# Altium schematic symbol library SCH_Oscillator.SchLib: 2 symbols
Pins are listed as number, name and electrical type; pins without a type are passive.

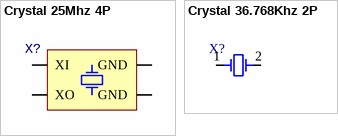
[diagram p0: symbols Crystal 25Mhz 4P to Crystal 36.768Khz 2P]

## Crystal 25Mhz 4P
designator X?  (value not drawn)
CRYSTAL 25.0000MHZ 18PF SMD; Manufacturer: EPSON; Manufacturer Part Number: FA-238 25.0000MB-C3; 梱包形態: カット テープ（CT）; 部品状況: 有効; タイプ: MHz水晶; 周波数安定性: ±30ppm; 周波数公差: ±50ppm; 動作モード: 基本波; 動作温度: -20°C～70°C; 実装タイプ: 面実装; パッケージ/ケース: 4-SMD、リードなし; サイズ/寸法: 0.126インチ長さ x 0.098インチ幅（3.20mm x 2.50mm）; 高さ - 座高（最大）: 0.028インチ（0.70mm）; Supplier 1: Digi-Key; RoHS: RoHS Compliant; Category: 水晶振動子および発振器; Stock 1: 58147; Pricing 1: 1=52, 10=43.1, 50=38.74, 100=34.42 (JPY); 負荷容量: 18pF; 定格: -; ComponentLink1URL: https://support.epson.biz/td/api/doc_check.php?dl=brief_FA-238V_en.pdf; ComponentLink1Description: https://support.epson.biz/td/api/doc_check.php?dl=brief_FA-238V_en.pdf; Supplier Part Number 1: SER3691CT-ND
footprint XTAL 4P
pins: 1 XI, 2 GND, 3 XO, 4 GND

## Crystal 36.768Khz 2P
designator X?
Crystal 36.768Khz 12.5 pF; Manufacturer: Abracon; Manufacturer Part Number: ABS07-32.768KHZ-T; Frequency Tolerance: 20ppm; Load Capacitance: 12.5pF; ESR (Equivalent Series Resistance): 70kR; Frequency: 32.768kHz; Supplier 1: Digi-Key; Stock 1: 344012; Pricing 1: 1=1.09, 10=0.961, 50=0.8988, 100=0.7942, 500=0.7524, 1000=0.627 (USD); Case/Package: CSMD; Number of Pins: 2; Min Operating Temperature: -40°C; Max Operating Temperature: 85°C; Packaging: Tape and Reel; Package Quantity: 3000; Tolerance: 20ppm; Termination: SMD/SMT; Series Resistance: 70kR; Length: 3.2mm; Height: 0.035inch; Width: 0.061inch; Depth: 1.5mm; Radiation Hardening: No; REACH SVHC: No SVHC; Lead Free: Lead Free; ComponentLink1URL: https://abracon.com/Support/PackageDrawing/Resonators/ABS07.PDF; ComponentLink1Description: https://abracon.com/Support/PackageDrawing/Resonators/ABS07.PDF; ComponentLink2URL: http://www.farnell.com/datasheets/1883680.pdf; ComponentLink2Description: http://www.farnell.com/datasheets/1883680.pdf; ComponentLink3URL: https://www.verical.com/server-webapp/html/getDatasheet?partID=727011; ComponentLink3Description: https://www.verical.com/server-webapp/html/getDatasheet?partID=727011; ComponentLink4URL: http://www.farnell.com/datasheets/1912628.pdf; ComponentLink4Description: http://www.farnell.com/datasheets/1912628.pdf; ComponentLink5URL: http://www.mouser.com/ds/2/3/ABS07-11028.pdf; ComponentLink5Description: http://www.mouser.com/ds/2/3/ABS07-11028.pdf; Supplier Part Number 1: 535-9542-6-ND
footprint XTAL 2P
pins: 1, 2